# Altium schematic symbol library switch_02.SchLib: 1 symbol
Pins are listed as number, name and electrical type; pins without a type are passive.

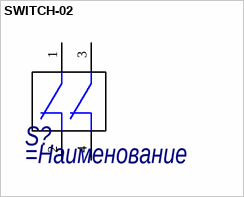
[diagram p0: symbol SWITCH-02]

## SWITCH-02
designator S?
=Описание
pins: 1, 2, 3, 4